# Altium schematic symbol library LLC.SchLib: 10 symbols
Pins are listed as number, name and electrical type; pins without a type are passive.

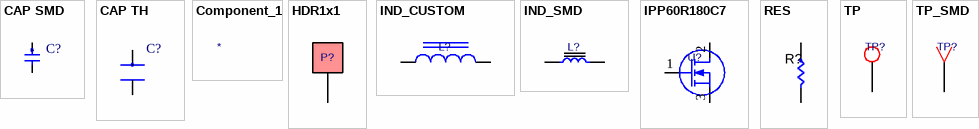
[diagram p0: symbols CAP SMD to TP_SMD]

## CAP SMD
designator C?, comment 1000pF  (value not drawn)
CAP SMD; Manufacturer: Murata Electronics North America; Manufacturer Part Number: GRM155R71H102KA01D; Tolerance: ±10%; Temperature Coefficient: X7R; Voltage - Rated: 50V; Supplier 1: Digi-Key; RoHS: RoHS Compliant; Category: Capacitors; Stock 1: 8779679; Pricing 1: 1=0.1, 10=0.011, 100=0.005, 1000=0.00283, 2500=0.00257, 5000=0.00237 (USD); Packaging: Cut Tape (CT); Part Status: Active; Capacitance: 1000pF; Operating Temperature: -55°C ~ 125°C; Features: -; Ratings: -; Applications: General Purpose; Mounting Type: Surface Mount, MLCC; Package / Case: 0402 (1005 Metric); Size / Dimension: 0.039" L x 0.020" W (1.00mm x 0.50mm); Height - Seated (Max): -; Thickness (Max): 0.022" (0.55mm); Lead Spacing: -; Lead Style: -; ComponentLink1URL: http://www.murata.com/~/media/webrenewal/support/library/catalog/products/capacitor/mlcc/c02e.ashx; ComponentLink1Description: http://www.murata.com/~/media/webrenewal/support/library/catalog/products/capacitor/mlcc/c02e.ashx; Supplier Part Number 1: 490-1303-1-ND
footprint P-CAP-CER-0402 (Capacitors, 2-Leads, Body 1.00x0.50mm)
pins: 1, 2

## CAP TH
designator C?, comment 1000pF  (value not drawn)
CAP Through Hole; Manufacturer: Murata Electronics North America; Manufacturer Part Number: GRM155R71H102KA01D; Tolerance: ±10%; Temperature Coefficient: X7R; Voltage - Rated: 50V; Supplier 1: Digi-Key; RoHS: RoHS Compliant; Category: Capacitors; Stock 1: 8779679; Pricing 1: 1=0.1, 10=0.011, 100=0.005, 1000=0.00283, 2500=0.00257, 5000=0.00237 (USD); Packaging: Cut Tape (CT); Part Status: Active; Capacitance: 1000pF; Operating Temperature: -55°C ~ 125°C; Features: -; Ratings: -; Applications: General Purpose; Mounting Type: Surface Mount, MLCC; Package / Case: 0402 (1005 Metric); Size / Dimension: 0.039" L x 0.020" W (1.00mm x 0.50mm); Height - Seated (Max): -; Thickness (Max): 0.022" (0.55mm); Lead Spacing: -; Lead Style: -; ComponentLink1URL: http://www.murata.com/~/media/webrenewal/support/library/catalog/products/capacitor/mlcc/c02e.ashx; ComponentLink1Description: http://www.murata.com/~/media/webrenewal/support/library/catalog/products/capacitor/mlcc/c02e.ashx; Supplier Part Number 1: 490-1303-1-ND
footprint P-CAP-CER-0402 (Capacitors, 2-Leads, Body 1.00x0.50mm)
pins: 1, 2

## Component_1
designator *  (value not drawn)

## HDR1x1
designator P?  (value not drawn)
Header 1x1
pins: 1

## IND_CUSTOM
designator L?  (value not drawn)
Customized Inductor
pins: 1, 2

## IND_SMD
designator L?  (value not drawn)
Fixed SMD Inductor
pins: 1, 2

## IPP60R180C7
designator U?  (value not drawn)
MOSFET N-CH 600V 13A TO220-3; Manufacturer Part Number: IPP60R180C7XKSA1; Rds On Max: 180mR; Input Capacitance: 1.08nF; Max Power Dissipation: 68W; Supplier 1: Digi-Key; Supplier Part Number 1: IPP60R180C7XKSA1-ND; Stock 1: 0; Pricing 1: 1=3.32, 10=2.997, 100=2.4087, 500=1.87342, 1000=1.55225 (USD); Mount: Through Hole; Case/Package: TO-220; Min Operating Temperature: -55°C; Max Operating Temperature: 150°C; Packaging: Rail/Tube; Drain to Source Voltage (Vdss): 600V; Continuous Drain Current (ID): 13A; Max Dual Supply Voltage: 600V; Lead Free: Lead Free; Halogen Free: Halogen Free; Supplier 2: Mouser; Supplier Part Number 2: 726-IPP60R180C7XKSA1; Stock 2: 0; Pricing 2: 1=2.86, 10=2.43, 50=2.43, 100=1.94, 1000=1.41, 10000=1.41 (USD)
pins: 1 G, 2 D, 3 S

## RES
designator R?
RES SMD
footprint R0603 (Res 0603)
pins: 1, 2

## TP
designator TP?  (value not drawn)
Through Hole Test Point
pins: 2

## TP_SMD
designator TP?  (value not drawn)  (no BOM)
SMD Test Point
pins: 2